# EAGLE library part GPS-ST22 (library selfmade)
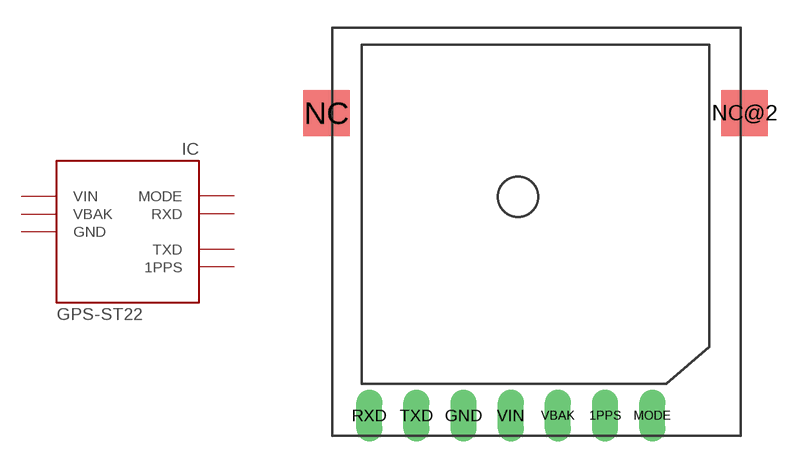
[diagram p9: symbol with the pads of GPS-ST22; footprint GPS-ST22]

Designator prefix IC

## GPS-ST22  [GPS-ST22]
1PPS  1PPS  out
GND  GND  sup
MODE  MODE  in
RXD  RXD  in
TXD  TXD  out
VBAK  VBAK  sup
VIN  VIN  sup

## Footprint GPS-ST22 (pad centres in mm)
drill 0.9 long: 1PPS 12.7,0; GND 5.08,0; MODE 15.24,0; RXD 0,0; TXD 2.54,0; VBAK 10.16,0; VIN 7.62,0
smd 2.5 x 2.5: NC -2.3,16.3; NC@2 20.2,16.3